# Altium schematic symbol library SCH - POWER - LINEAR VREG - TI LP3995ILD-1.5.SchLib: 1 symbol
Pins are listed as number, name and electrical type; pins without a type are passive.

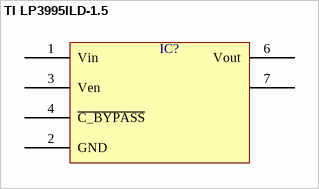
[diagram p0: symbol TI LP3995ILD-1.5]

## TI LP3995ILD-1.5
designator IC?  (value not drawn)
pins: 1 Vin, 2 GND, 3 Ven, 4 ~{C_BYPASS}, 6 Vout, 7